# Altium footprint library SOCK_6x1_0.PcbLib: 1 footprints
Each footprint in its own frame and in the unit in brackets; x right, y up, seen from the top. Pads: shape width x height; smd on the part's side, far side on the other; paste and mask are expansions set on the pad; w line width, h text height; cw(c..) or ccw(c..) is an arc to the next point about the centre after c.
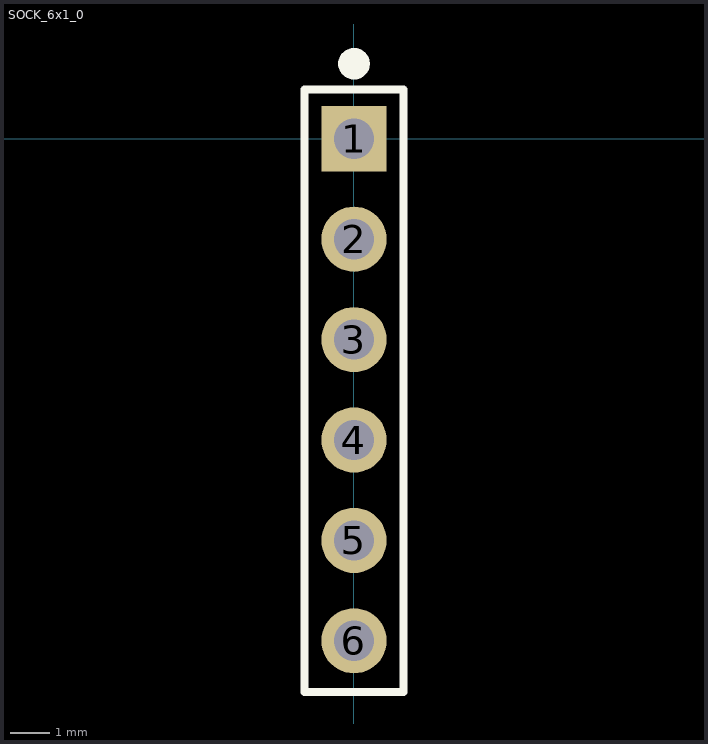
[diagram p0: the footprint, top view; thin cyan lines are the x and y axes]

## SOCK_6x1_0 [mil]
pads (6):
  rect 65x65 hole 40: 1(0,0)
  round 65 hole 40: 2(0,-100) 3(0,-200) 4(0,-300) 5(0,-400) 6(0,-500)
Top Overlay:
  circle w15.75: c0,74.8 r7.87
  lines w7.87: -49.21,-551.18 -49.21,49.21 49.21,49.21 49.21,-551.18 -49.21,-551.18
3D body "socket_6x1_100mil.SLDPRT": height 328.74, standoff -127.95, extent -49.21,-550.78 49.22,49.22